# Altium footprint library 691382040002.PcbLib: 2 footprints
Each footprint in its own frame and in the unit in brackets; x right, y up, seen from the top. Pads: shape width x height; smd on the part's side, far side on the other; paste and mask are expansions set on the pad; w line width, h text height; cw(c..) or ccw(c..) is an arc to the next point about the centre after c.
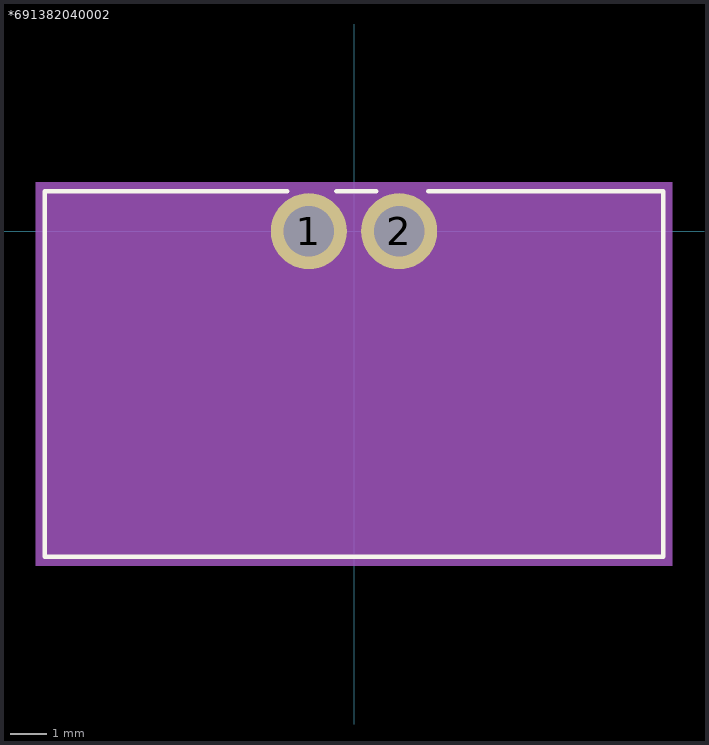
[diagram p0: the footprints below, top view; thin cyan lines are the x and y axes]

## *691382040002 [mm]
pads (2):
  round 2.1 hole 1.4: 1(-1.25,0) 2(1.25,0)
Top Overlay:
  lines w0.127: -8.551,1.099 -8.55,1.1 ; -1.85,1.1 -8.55,1.1 ; -0.485,1.1 0.615,1.1 ; 2.05,1.1 8.55,1.1 ; 8.551,1.103 8.55,1.1 ; -8.55,1.1 -8.55,-9 8.55,-9 8.55,1.1
Mechanical 4:
  lines w0.127: -8.55,1.1 8.55,1.1 -8.55,1.1
  text "1" at -1.75,-3 h1.88
  text "1" at -1.75,-3 h1.88
Mechanical 16:
  region: -8.8,1.35 8.8,1.35 8.8,-9.25 -8.8,-9.25

## PCBComponent_1 [mm]